# EAGLE library part L202021MA04Q (library radish)
Power switch
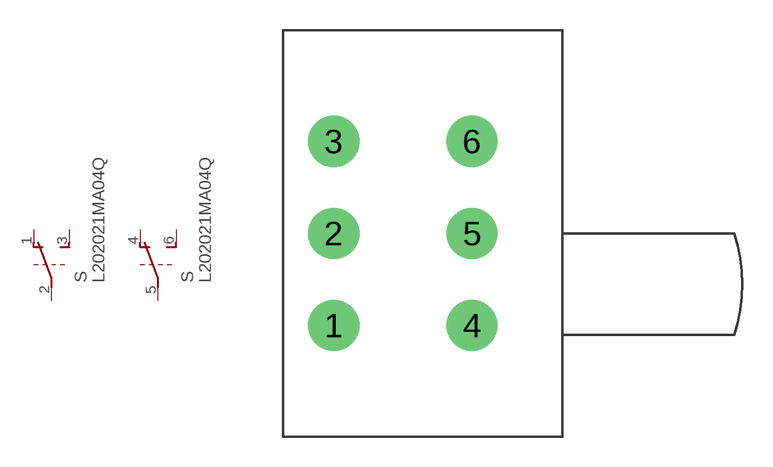
[diagram p6: symbol with the pads of L202*MA; footprint L202*MA]

Designator prefix S; gates B=DPDT A=DPDT

## L202021MA04Q  [L202*MA]
1  A:O  pas
2  A:P  pas
3  A:S  pas
4  B:O  pas
5  B:P  pas
6  B:S  pas

## Footprint L202*MA (pad centres in mm)
drill 1.702 round: 1 2.54,5.563; 2 2.54,10.16; 3 2.54,14.757; 4 9.449,5.563; 5 9.449,10.16; 6 9.449,14.757